# EAGLE library part ULN2803AFWG (library ScottSilver)
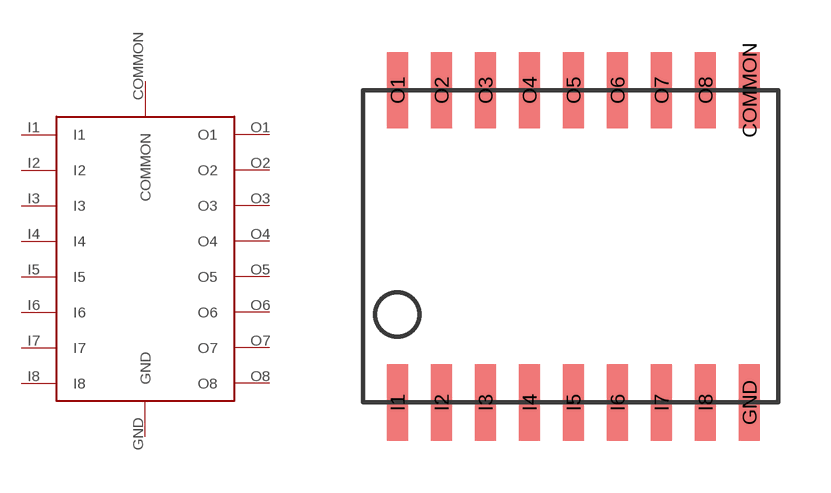
[diagram p2: symbol with the pads of ULN2803AFWG; footprint ULN2803AFWG]

Designator prefix -

## ULN2803AFWG  [ULN2803AFWG]
COMMON  COMMON
GND  GND
I1  I1
I2  I2
I3  I3
I4  I4
I5  I5
I6  I6
I7  I7
I8  I8
O1  O1
O2  O2
O3  O3
O4  O4
O5  O5
O6  O6
O7  O7
O8  O8

## Footprint ULN2803AFWG (pad centres in mm)
smd 0.6 x 2.2: COMMON 10.16,9.01; GND 10.16,0; I1 0,0; I2 1.27,0; I3 2.54,0; I4 3.81,0; I5 5.08,0; I6 6.35,0; I7 7.62,0; I8 8.89,0; O1 0,9.01; O2 1.27,9.01; O3 2.54,9.01; O4 3.81,9.01; O5 5.08,9.01; O6 6.35,9.01; O7 7.62,9.01; O8 8.89,9.01